# Altium footprint library TSSOP-8.PcbLib: 1 footprints
Each footprint in its own frame and in the unit in brackets; x right, y up, seen from the top. Pads: shape width x height; smd on the part's side, far side on the other; paste and mask are expansions set on the pad; w line width, h text height; cw(c..) or ccw(c..) is an arc to the next point about the centre after c.
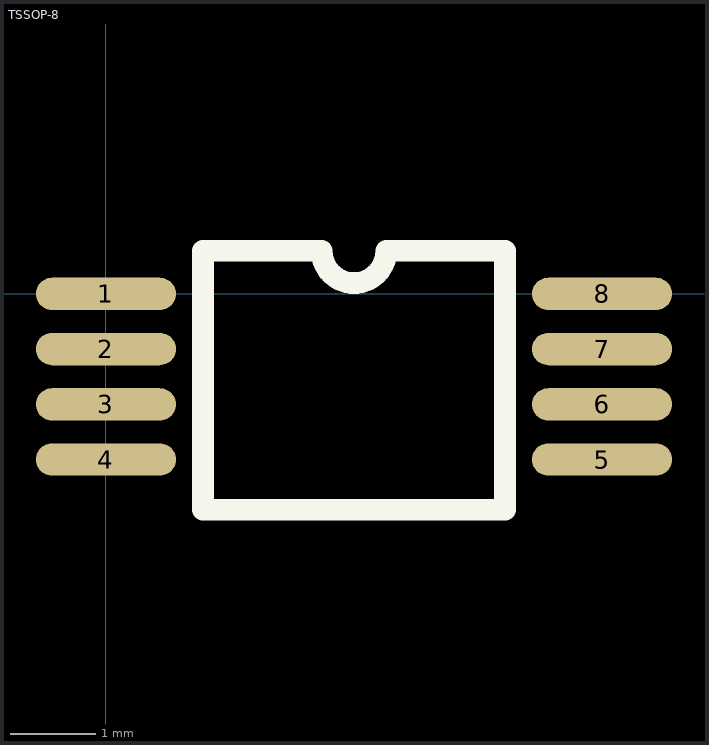
[diagram p0: the footprint, top view; thin cyan lines are the x and y axes]

## TSSOP-8 [mil]
height 45
pads (8):
  oval 65x15 smd mask+2: 1(0,0) 2(0,-25.6) 3(0,-51.2) 4(0,-76.8) 5(230,-76.8) 6(230,-51.2) 7(230,-25.6) 8(230,0)
TopOverlay:
  lines w10: 45,-100 45,20 100,20 ccw(c115,20) 130,20 185,20 185,-100 45,-100
3D body: height 47.24, standoff 0, extent -10.43,-97.85 243.73,20.26